# EAGLE library part LPC236 (library lpc23xx)
The LPC2364/65/66/67/68 microcontrollers are based on a 16-bit/32-bit ARM7TDMI-S CPU with real-time emulation that combines the microcontroller with up to 512 kB of embedded high-speed ?ash memory. A 128-bit wide memory interface and a unique accelerator architecture enable 32-bit code execution at the maximum clock rate. For critical performance in interrupt service routines and DSP algorithms, this increases performance up to 30 % over Thumb mode. For critical code size applications, the alternative 16-bit Thumb mode reduces code by more than 30 % with minimal performance penalty.
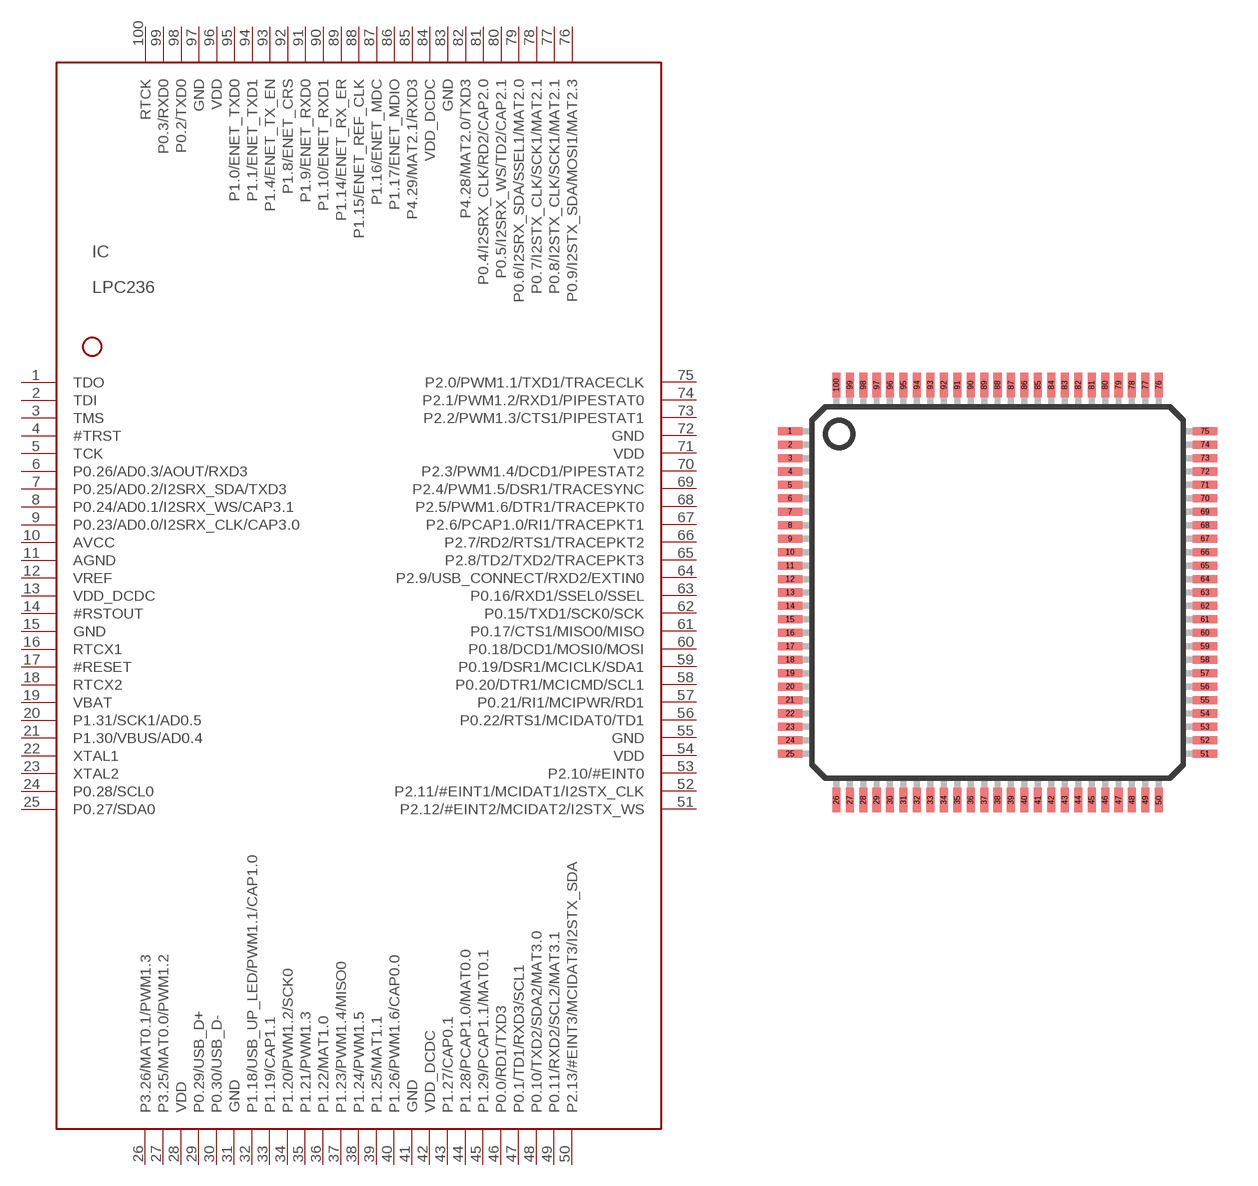
[diagram p0: symbol with the pads of LQFP100; footprint LQFP100]

Designator prefix IC

## LPC2364FBD100, LPC2365FBD100, LPC2366FBD100, LPC2367FBD100, LPC2368FBD100  [LQFP100]
1  TDO  out
2  TDI  in
3  TMS  in
4  #TRST  in
5  TCK  in
6  P0.26/AD0.3/AOUT/RXD3
7  P0.25/AD0.2/I2SRX_SDA/TXD3
8  P0.24/AD0.1/I2SRX_WS/CAP3.1
9  P0.23/AD0.0/I2SRX_CLK/CAP3.0
10  AVCC  pwr
11  AGND  pwr
12  VREF  pwr
13  VDD_DCDC  pwr
14  #RSTOUT  out
15  GND  pwr
16  RTCX1  in
17  #RESET  in
18  RTCX2  out
19  VBAT  pwr
20  P1.31/SCK1/AD0.5
21  P1.30/VBUS/AD0.4
22  XTAL1  in
23  XTAL2  out
24  P0.28/SCL0
25  P0.27/SDA0
26  P3.26/MAT0.1/PWM1.3
27  P3.25/MAT0.0/PWM1.2
28  VDD  pwr
29  P0.29/USB_D+
30  P0.30/USB_D-
31  GND  pwr
32  P1.18/USB_UP_LED/PWM1.1/CAP1.0
33  P1.19/CAP1.1
34  P1.20/PWM1.2/SCK0
35  P1.21/PWM1.3
36  P1.22/MAT1.0
37  P1.23/PWM1.4/MISO0
38  P1.24/PWM1.5
39  P1.25/MAT1.1
40  P1.26/PWM1.6/CAP0.0
41  GND  pwr
42  VDD_DCDC  pwr
43  P1.27/CAP0.1
44  P1.28/PCAP1.0/MAT0.0
45  P1.29/PCAP1.1/MAT0.1
46  P0.0/RD1/TXD3
47  P0.1/TD1/RXD3/SCL1
48  P0.10/TXD2/SDA2/MAT3.0
49  P0.11/RXD2/SCL2/MAT3.1
50  P2.13/#EINT3/MCIDAT3/I2STX_SDA
51  P2.12/#EINT2/MCIDAT2/I2STX_WS
52  P2.11/#EINT1/MCIDAT1/I2STX_CLK
53  P2.10/#EINT0
54  VDD  pwr
55  GND  pwr
56  P0.22/RTS1/MCIDAT0/TD1
57  P0.21/RI1/MCIPWR/RD1
58  P0.20/DTR1/MCICMD/SCL1
59  P0.19/DSR1/MCICLK/SDA1
60  P0.18/DCD1/MOSI0/MOSI
61  P0.17/CTS1/MISO0/MISO
62  P0.15/TXD1/SCK0/SCK
63  P0.16/RXD1/SSEL0/SSEL
64  P2.9/USB_CONNECT/RXD2/EXTIN0
65  P2.8/TD2/TXD2/TRACEPKT3
66  P2.7/RD2/RTS1/TRACEPKT2
67  P2.6/PCAP1.0/RI1/TRACEPKT1
68  P2.5/PWM1.6/DTR1/TRACEPKT0
69  P2.4/PWM1.5/DSR1/TRACESYNC
70  P2.3/PWM1.4/DCD1/PIPESTAT2
71  VDD  pwr
72  GND  pwr
73  P2.2/PWM1.3/CTS1/PIPESTAT1
74  P2.1/PWM1.2/RXD1/PIPESTAT0
75  P2.0/PWM1.1/TXD1/TRACECLK
76  P0.9/I2STX_SDA/MOSI1/MAT2.3
77  P0.8/I2STX_CLK/SCK1/MAT2.1
78  P0.7/I2STX_CLK/SCK1/MAT2.1
79  P0.6/I2SRX_SDA/SSEL1/MAT2.0
80  P0.5/I2SRX_WS/TD2/CAP2.1
81  P0.4/I2SRX_CLK/RD2/CAP2.0
82  P4.28/MAT2.0/TXD3
83  GND  pwr
84  VDD_DCDC  pwr
85  P4.29/MAT2.1/RXD3
86  P1.17/ENET_MDIO
87  P1.16/ENET_MDC
88  P1.15/ENET_REF_CLK
89  P1.14/ENET_RX_ER
90  P1.10/ENET_RXD1
91  P1.9/ENET_RXD0
92  P1.8/ENET_CRS
93  P1.4/ENET_TX_EN
94  P1.1/ENET_TXD1
95  P1.0/ENET_TXD0
96  VDD  pwr
97  GND  pwr
98  P0.2/TXD0
99  P0.3/RXD0
100  RTCK

## Footprint LQFP100 (pad centres in mm)
Low Profile Quad Flat Pack
smd 0.9 x 0.3: 1 -7.72,6; 2 -7.72,5.5; 3 -7.72,5; 4 -7.72,4.5; 5 -7.72,4; 6 -7.72,3.5; 7 -7.72,3; 8 -7.72,2.5; 9 -7.72,2; 10 -7.72,1.5; 11 -7.72,1; 12 -7.72,0.5; 13 -7.72,0; 14 -7.72,-0.5; 15 -7.72,-1; 16 -7.72,-1.5; 17 -7.72,-2; 18 -7.72,-2.5; 19 -7.72,-3; 20 -7.72,-3.5; 21 -7.72,-4; 22 -7.72,-4.5; 23 -7.72,-5; 24 -7.72,-5.5; 25 -7.72,-6; 51 7.72,-6; 52 7.72,-5.5; 53 7.72,-5; 54 7.72,-4.5; 55 7.72,-4; 56 7.72,-3.5; 57 7.72,-3; 58 7.72,-2.5; 59 7.72,-2; 60 7.72,-1.5; 61 7.72,-1; 62 7.72,-0.5; 63 7.72,0; 64 7.72,0.5; 65 7.72,1; 66 7.72,1.5; 67 7.72,2; 68 7.72,2.5; 69 7.72,3; 70 7.72,3.5; 71 7.72,4; 72 7.72,4.5; 73 7.72,5; 74 7.72,5.5; 75 7.72,6
smd 0.3 x 0.9: 26 -6,-7.72; 27 -5.5,-7.72; 28 -5,-7.72; 29 -4.5,-7.72; 30 -4,-7.72; 31 -3.5,-7.72; 32 -3,-7.72; 33 -2.5,-7.72; 34 -2,-7.72; 35 -1.5,-7.72; 36 -1,-7.72; 37 -0.5,-7.72; 38 0,-7.72; 39 0.5,-7.72; 40 1,-7.72; 41 1.5,-7.72; 42 2,-7.72; 43 2.5,-7.72; 44 3,-7.72; 45 3.5,-7.72; 46 4,-7.72; 47 4.5,-7.72; 48 5,-7.72; 49 5.5,-7.72; 50 6,-7.72; 76 6,7.72; 77 5.5,7.72; 78 5,7.72; 79 4.5,7.72; 80 4,7.72; 81 3.5,7.72; 82 3,7.72; 83 2.5,7.72; 84 2,7.72; 85 1.5,7.72; 86 1,7.72; 87 0.5,7.72; 88 0,7.72; 89 -0.5,7.72; 90 -1,7.72; 91 -1.5,7.72; 92 -2,7.72; 93 -2.5,7.72; 94 -3,7.72; 95 -3.5,7.72; 96 -4,7.72; 97 -4.5,7.72; 98 -5,7.72; 99 -5.5,7.72; 100 -6,7.72